# Altium footprint library G5V-1.PcbLib: 1 footprints
Each footprint in its own frame and in the unit in brackets; x right, y up, seen from the top. Pads: shape width x height; smd on the part's side, far side on the other; paste and mask are expansions set on the pad; w line width, h text height; cw(c..) or ccw(c..) is an arc to the next point about the centre after c.
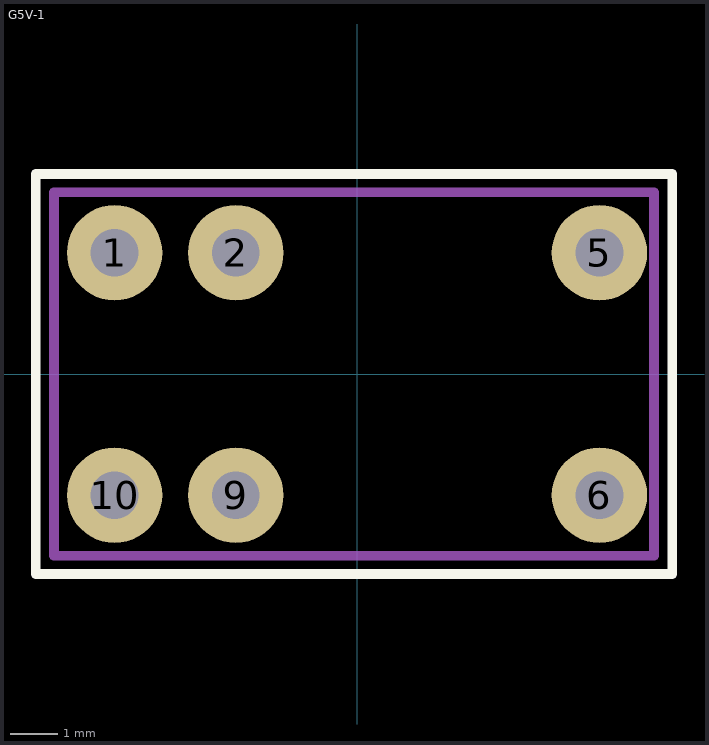
[diagram p0: the footprint, top view; thin cyan lines are the x and y axes]

## G5V-1 [mm] "OMRON Ultra-miniature, Highly Sensitive SPDT  Relay for Signal Circuits"
pads (6):
  round 2 hole 1: 1(-5.08,2.54) 2(-2.54,2.54) 5(5.08,2.54) 6(5.08,-2.54) 9(-2.54,-2.54) 10(-5.08,-2.54)
Top Overlay:
  lines w0.2: -6.731,-4.191 6.604,-4.191 6.604,4.191 -6.731,4.191 -6.731,-4.191
Mechanical 13:
  lines w0.2: -6.35,-3.81 6.223,-3.81 6.223,3.81 -6.35,3.81 -6.35,-3.81
  text ".Designator" at -2.794,0.254 h1.52
3D body: height 10, standoff -3, extent -6.35,-3.75 6.15,3.75